# Altium schematic symbol library RPSLib_Microcontrollers.SchLib: 11 symbols
Pins are listed as number, name and electrical type; pins without a type are passive.

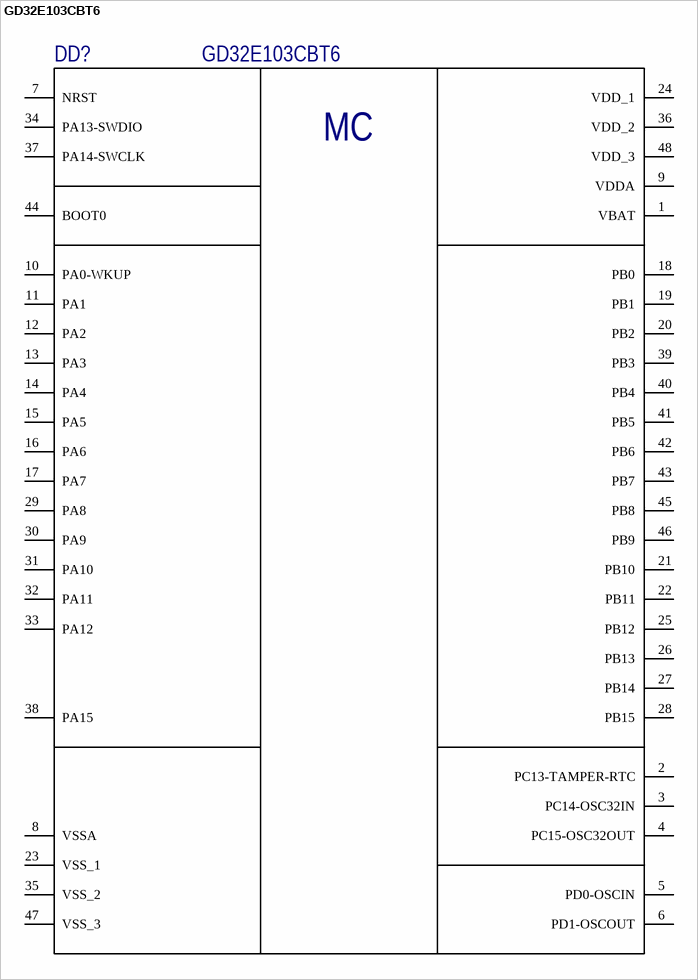
[diagram p0: symbol GD32E103CBT6]

## GD32E103CBT6
designator DD?
MCU 32-bit GD32E ARM Cortex M4 RISC 128KB Flash 2.5V/3.3V 48-Pin LQFP Tray; Manufacturer: GigaDevice; Interface: I2C,SPI,USB,CAN,IrDA,UART,USART,LIN; Max Supply Voltage: 3.6V; Frequency: 120MHz; RAM Size: 32KB; Number of I/Os: 37; Min Supply Voltage: 2V; Oscillator Type: Internal; Data Bus Width: 32b; Watchdog Timer: Yes; Peripherals: POR,PWM,WDT,DMA,Temp Sensor,I2C; Number of ADC Channels: 10; Number of SPI Channels: 2; Number of Bits: 32; Supplier 1: *; Manufacturer Part Number: GD32E103CBT6; RoHS: Yes; Category: Microcontrollers; Pricing 1: 1=7,38000, 10=6,67100, 25=6,36080, 90=5,52300, 270=5,27481, 450=4,80940, 990=4,52498 (USD); Case/Package: LQFP; Number of Pins: 48; Min Operating Temperature: -40°C; Max Operating Temperature: 85°C; Package Quantity: 90; Packaging: Tray; Max Frequency: 120MHz; Memory Type: FLASH; Memory Size: 128KB; Core Architecture: ARM; Density: 128KB; Number of I2C Channels: 2; Address Bus Width: 32b; Length: 9.2mm; Width: 9.2mm; Height: 1.6mm; Radiation Hardening: No; REACH SVHC: No SVHC; Lead Free: Lead Free; Supplier Part Number 1: *
footprint TSQFP50P900X900X160-48N (TSQFP, 48-Leads, Body 7,00x7,00mm, Pitch 0,50mm, IPC Medium Density)
pins: 1 VBAT, 2 PC13-TAMPER-RTC, 3 PC14-OSC32IN, 4 PC15-OSC32OUT, 5 PD0-OSCIN, 6 PD1-OSCOUT, 7 NRST, 8 VSSA, 9 VDDA, 10 PA0-WKUP, 11 PA1, 12 PA2, 13 PA3, 14 PA4, 15 PA5, 16 PA6, 17 PA7, 18 PB0, 19 PB1, 20 PB2, 21 PB10, 22 PB11, 23 VSS_1, 24 VDD_1, 25 PB12, 26 PB13, 27 PB14, 28 PB15, 29 PA8, 30 PA9, 31 PA10, 32 PA11, 33 PA12, 34 PA13-SWDIO, 35 VSS_2, 36 VDD_2, 37 PA14-SWCLK, 38 PA15, 39 PB3, 40 PB4, 41 PB5, 42 PB6, 43 PB7, 44 BOOT0, 45 PB8, 46 PB9, 47 VSS_3, 48 VDD_3
text: MC

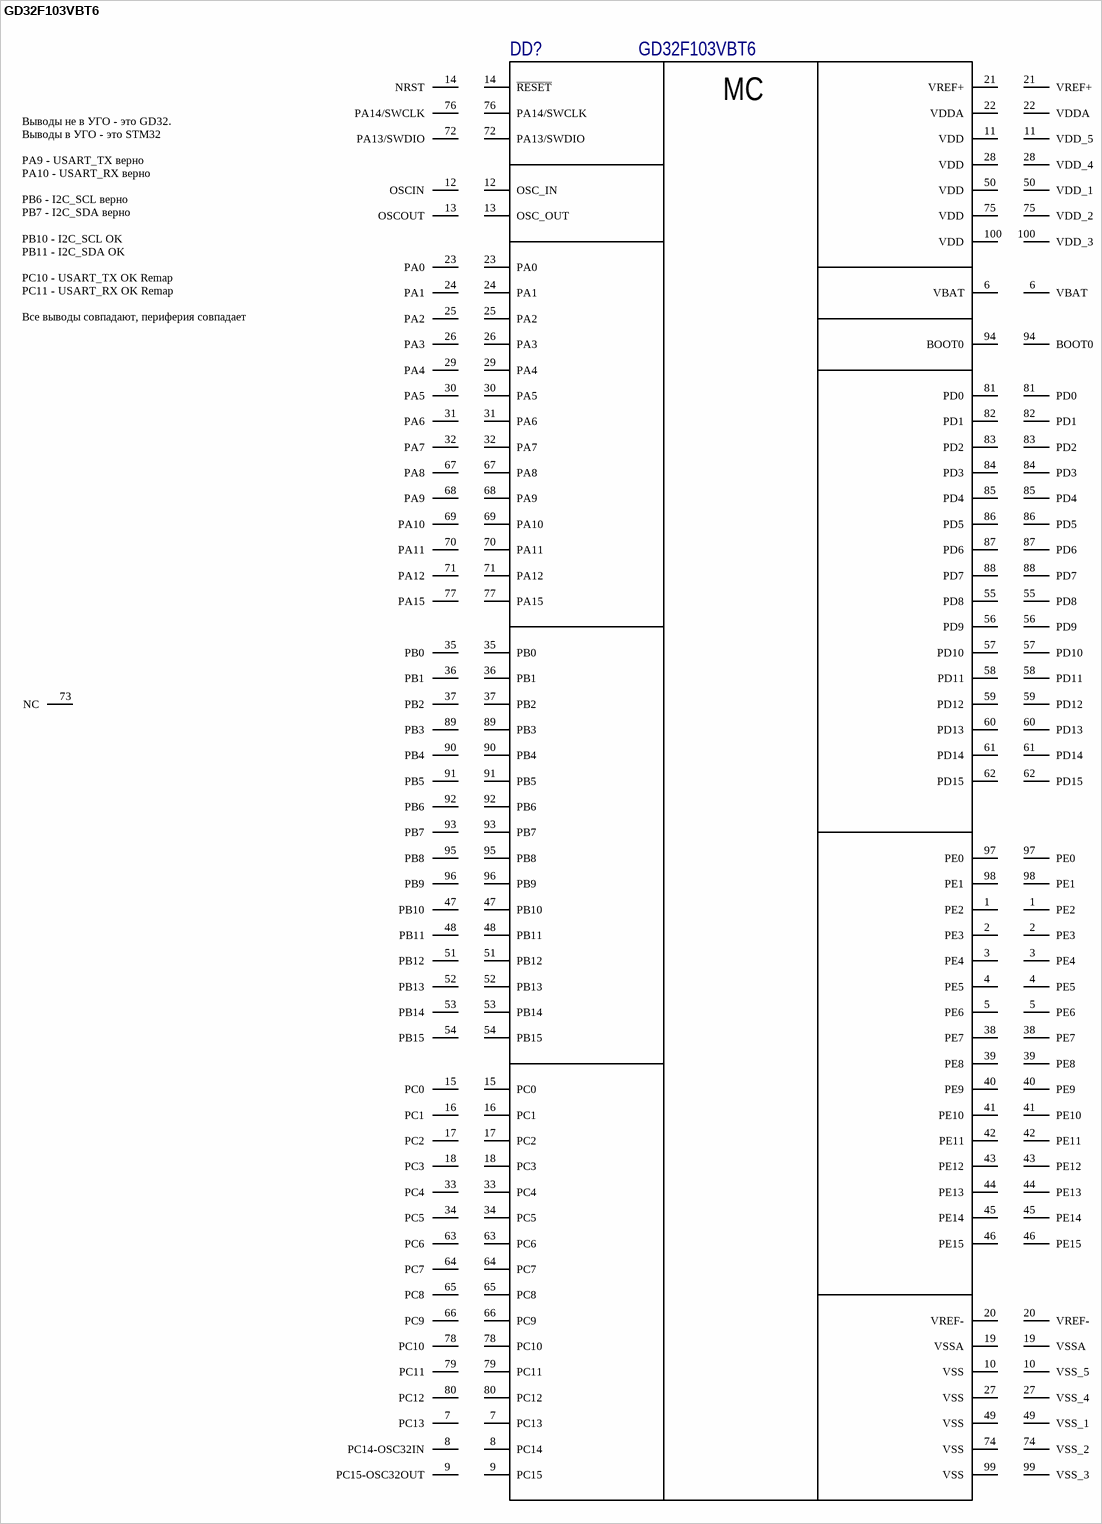
[diagram p1: symbol GD32F103VBT6]

## GD32F103VBT6
designator DD?
MCU 32-bit GD32F1 ARM Cortex M3 RISC 128KB Flash 2.5V/3.3V 100-Pin LQFP Tray; Manufacturer: GigaDevice; Interface: I2C,SPI,USB,CAN,IrDA,UART,USART,LIN; Max Supply Voltage: 3.6V; Frequency: 108MHz; RAM Size: 20KB; Max Power Dissipation: 434mW; Number of I/Os: 80; Number of Timers/Counters: 4; Min Supply Voltage: 2V; Number of Programmable I/O: 100; Oscillator Type: Internal; Data Bus Width: 32b; Watchdog Timer: Yes; Peripherals: POR,PWM,WDT,DMA,Temp Sensor,I2C; Number of PWM Channels: 1; Number of ADC Channels: 16; Number of SPI Channels: 2; Number of Bits: 32; Supplier 1: *; Manufacturer Part Number: GD32F103VBT6; RoHS: Yes; Category: Microcontrollers; Pricing 1: 1=7,38000, 10=6,67100, 25=6,36080, 90=5,52300, 270=5,27481, 450=4,80940, 990=4,52498 (USD); Case/Package: LQFP; Number of Pins: 100; Min Operating Temperature: -40°C; Max Operating Temperature: 85°C; Package Quantity: 90; Packaging: Tray; Max Frequency: 108MHz; Memory Type: FLASH; Memory Size: 128KB; Core Architecture: ARM; Density: 128KB; Number of I2C Channels: 2; Address Bus Width: 32b; Length: 14mm; Width: 14.2mm; Height: 1.45mm; Radiation Hardening: No; REACH SVHC: No SVHC; Lead Free: Lead Free; Supplier Part Number 1: 497-6070-ND
footprint TSQFP50P1600X1600X160-100N (TSQFP, 100-Leads, Body 14.00x14.00mm, Pitch 0.50mm, IPC Medium Density)
pins: 1 PE2, 1 PE2, 2 PE3, 2 PE3, 3 PE4, 3 PE4, 4 PE5, 4 PE5, 5 PE6, 5 PE6, 6 VBAT, 6 VBAT, 7 PC13, 7 PC13, 8 PC14, 8 PC14-OSC32IN, 9 PC15, 9 PC15-OSC32OUT, 10 VSS, 10 VSS_5, 11 VDD, 11 VDD_5, 12 OSC_IN, 12 OSCIN, 13 OSC_OUT, 13 OSCOUT, 14 ~{RESET}, 14 NRST, 15 PC0, 15 PC0, 16 PC1, 16 PC1, 17 PC2, 17 PC2, 18 PC3, 18 PC3, 19 VSSA, 19 VSSA, 20 VREF-, 20 VREF-, 21 VREF+, 21 VREF+, 22 VDDA, 22 VDDA, 23 PA0, 23 PA0, 24 PA1, 24 PA1, 25 PA2, 25 PA2, 26 PA3, 26 PA3, 27 VSS, 27 VSS_4, 28 VDD, 28 VDD_4, 29 PA4, 29 PA4, 30 PA5, 30 PA5, 31 PA6, 31 PA6, 32 PA7, 32 PA7, 33 PC4, 33 PC4, 34 PC5, 34 PC5, 35 PB0, 35 PB0, 36 PB1, 36 PB1, 37 PB2, 37 PB2, 38 PE7, 38 PE7, 39 PE8, 39 PE8, 40 PE9, 40 PE9, 41 PE10, 41 PE10, 42 PE11, 42 PE11, 43 PE12, 43 PE12, 44 PE13, 44 PE13, 45 PE14, 45 PE14, 46 PE15, 46 PE15, 47 PB10, 47 PB10, 48 PB11, 48 PB11, 49 VSS, 49 VSS_1, 50 VDD, 50 VDD_1, 51 PB12, 51 PB12, 52 PB13, 52 PB13, 53 PB14, 53 PB14, 54 PB15, 54 PB15, 55 PD8, 55 PD8, 56 PD9, 56 PD9, 57 PD10, 57 PD10, 58 PD11, 58 PD11, 59 PD12, 59 PD12, 60 PD13, 60 PD13, 61 PD14, 61 PD14, 62 PD15, 62 PD15, 63 PC6, 63 PC6, 64 PC7, 64 PC7, 65 PC8, 65 PC8, 66 PC9, 66 PC9, 67 PA8, 67 PA8, 68 PA9, 68 PA9, 69 PA10, 69 PA10, 70 PA11, 70 PA11, 71 PA12, 71 PA12, 72 PA13/SWDIO, 72 PA13/SWDIO, 73 NC, 74 VSS, 74 VSS_2, 75 VDD, 75 VDD_2, 76 PA14/SWCLK, 76 PA14/SWCLK, 77 PA15, 77 PA15, 78 PC10, 78 PC10, 79 PC11, 79 PC11, 80 PC12, 80 PC12, 81 PD0, 81 PD0, 82 PD1, 82 PD1, 83 PD2, 83 PD2, 84 PD3, 84 PD3, 85 PD4, 85 PD4, 86 PD5, 86 PD5, 87 PD6, 87 PD6, 88 PD7, 88 PD7, 89 PB3, 89 PB3, 90 PB4, 90 PB4, 91 PB5, 91 PB5, 92 PB6, 92 PB6, 93 PB7, 93 PB7, 94 BOOT0, 94 BOOT0, 95 PB8, 95 PB8, 96 PB9, 96 PB9, 97 PE0, 97 PE0, 98 PE1, 98 PE1, 99 VSS, 99 VSS_3, 100 VDD, 100 VDD_3
text: MC; Выводы не в УГО - это GD32. / Выводы в УГО - это STM32 / PA9 - USART_TX верно / PA10 - USART_RX верно / PB6 - I2C_SCL верно / PB7 - I2C_SDA верно / PB10 - I2C_SCL OK / PB11 - I2C_SDA OK / PC10 - USART_TX OK Remap / PC11 - USART_RX OK Remap / Все выводы совпадают, периферия совпадает

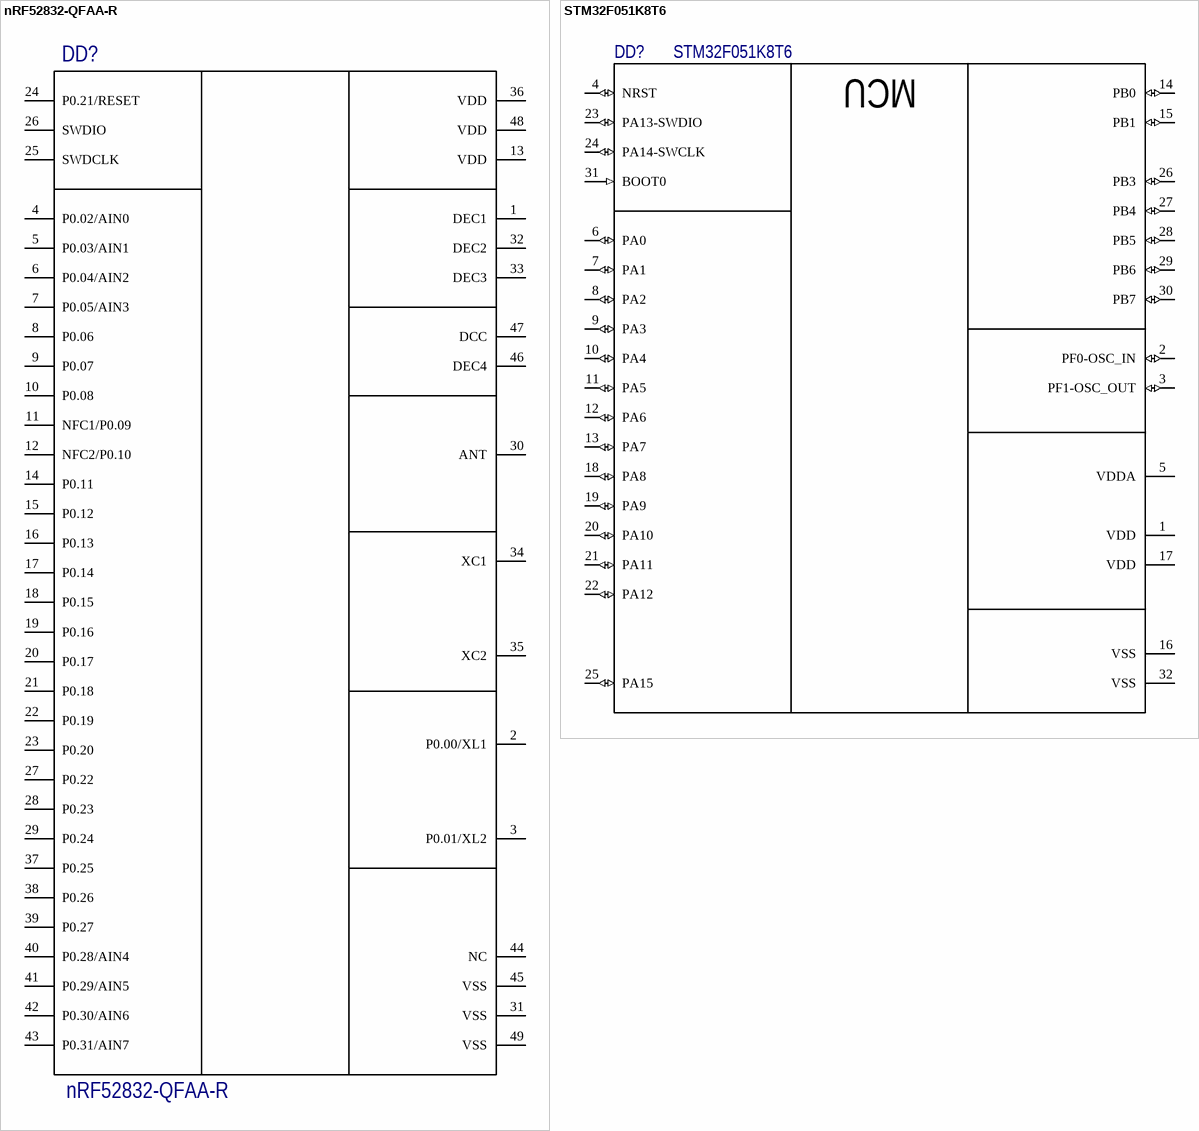
[diagram p2: symbols nRF52832-QFAA-R to STM32F051K8T6]

## nRF52832-QFAA-R
designator DD?
IC RF TxRx + MCU Bluetooth, General ISM > 1GHz Bluetooth v4.1 2.4GHz 48-VFQFN Exposed Pad; Manufacturer: Nordic Semiconductor; Manufacturer Part Number: NRF52832-QFAA-R7; Data Rate: 2Mbps; Sensitivity: -96dBm; Memory Size: 64KB; Number of GPIO: 32; Interface: I2C,SPI,UART; Memory Type: FLASH; Current - Receiving: 10.4mA; Current - Transmitting: 15.2mA; Data Bus Width: 32b; Core Architecture: ARM; РКД Наименование: NRF52832-QFAA - RF TxRx MCU Bluetooth IC; Supplier 1: Digi-Key; Stock 1: 194661; Pricing 1: 1=5.73, 10=5.119, 25=4.6068, 100=4.1974, 250=3.78788, 500=3.39886, 1000=2.8665 (USD); Mount: Surface Mount; Case/Package: QFN; Number of Pins: 48; Min Operating Temperature: -40°C; Max Operating Temperature: 85°C; Packaging: Tape and Reel; Frequency: 2.4GHz; RAM Size: 64Kb; Max Frequency: 2.4GHz; Lead Free: Lead Free; Supplier Part Number 1: 1490-1052-1-ND
footprint QFN40P600X600X90-48N (QFN, 48-Leads, Body 6,0x6,0mm (max), Pitch 0,40mm, IPC Medium Density)
pins: 1 DEC1, 2 P0.00/XL1, 3 P0.01/XL2, 4 P0.02/AIN0, 5 P0.03/AIN1, 6 P0.04/AIN2, 7 P0.05/AIN3, 8 P0.06, 9 P0.07, 10 P0.08, 11 NFC1/P0.09, 12 NFC2/P0.10, 13 VDD, 14 P0.11, 15 P0.12, 16 P0.13, 17 P0.14, 18 P0.15, 19 P0.16, 20 P0.17, 21 P0.18, 22 P0.19, 23 P0.20, 24 P0.21/RESET, 25 SWDCLK, 26 SWDIO, 27 P0.22, 28 P0.23, 29 P0.24, 30 ANT, 31 VSS, 32 DEC2, 33 DEC3, 34 XC1, 35 XC2, 36 VDD, 37 P0.25, 38 P0.26, 39 P0.27, 40 P0.28/AIN4, 41 P0.29/AIN5, 42 P0.30/AIN6, 43 P0.31/AIN7, 44 NC, 45 VSS, 46 DEC4, 47 DCC, 48 VDD, 49 VSS

## STM32F051K8T6
designator DD?
MCU 32-bit STM32F ARM Cortex M3 RISC 768KB Flash 2.5V/3.3V 100-Pin LQFP Tray; Manufacturer: STMicroelectronics; Manufacturer Part Number: STM32F051K8T6TR; Data Bus Width: 32b; EEPROM Memory Size: 0B; Flash Memory Size: 64kB; Frequency: 48MHz; Interface: HDMI, I2C, I2S, IrDA, LIN, SPI, UART, USART; Max Frequency: 32MHz; Max Supply Current: 23.2mA; Max Supply Voltage: 3.6V; Min Supply Voltage: 2V; Nominal Supply Current: 1.7µA; Nominal Supply Voltage (DC): 3.3V; Number of A/D Converters: 1; Number of ADC Channels: 16; Number of Channels: 10; Number of I/Os: 25; Number of Interrupts: 5; Number of PWM Channels: 6; Number of USART Channels: 2; Oscillator Type: Internal; Peripherals: DMA, POR, PWM, WDT; RAM Size: 8kB; Watchdog Timer: Yes; Supplier 1: DigiKey; RoHS: Compliant; Category: Microcontrollers; Stock 1: 9240; Pricing 1: 1=4,06, 10=3,069, 25=2,8204, 100=2,547, 250=2,41672, 500=2,37946 (USD); Case/Package: LQFP; China RoHS: Compliant; Contact Plating: Tin; Core Architecture: ARM; Country of Origin: Mainland China; Export Control Classification Number (ECCN) Code: 3A991.A.2; Height: 1.45mm; Height - Seated (Max): 1.6mm; Harmonized Tariff Schedule (HTS) Code: 8542.31.00.25; Introduction Date: 2012-07-23; Lead Free: Lead Free; Length: 7mm; Lifecycle Status: Production; Max Operating Temperature: 85°C; Memory Size: 64kB; Memory Type: FLASH; Min Operating Temperature: -40°C; Number of D/A Converters: 1; Number of I2C Channels: 1; Number of Pins: 32; Number of Programmable I/O: 25; Number of SPI Channels: 1; Number of Terminals: 32; Number of Timers/Counters: 1; Packaging: Tape and Reel; Radiation Hardening: No; REACH SVHC: Yes; Schedule B: 8542310000, 8542310000|8542310000|8542310000|8542310000|8542310000; Temperature Grade: Industrial; Terminal Pitch: 800µm; Width: 7mm; ComponentLink1URL: https://datasheet.octopart.com:443/STM32F051K8T6TR-STMicroelectronics-datasheet-68304280.pdf?src-supplier=HQonline; ComponentLink1Description: https://datasheet.octopart.com:443/STM32F051K8T6TR-STMicroelectronics-datasheet-68304280.pdf?src-supplier=HQonline; ComponentLink2URL: https://datasheet.octopart.com:443/STM32F051K8T6TR-STMicroelectronics-datasheet-11517890.pdf?src-supplier=Upverter; ComponentLink2Description: https://datasheet.octopart.com:443/STM32F051K8T6TR-STMicroelectronics-datasheet-11517890.pdf?src-supplier=Upverter; ComponentLink3URL: https://datasheet.octopart.com:443/STM32F051K8T6TR-STMicroelectronics-datasheet-62069523.pdf?src-supplier=STMicroelectronics; ComponentLink3Description: https://datasheet.octopart.com:443/STM32F051K8T6TR-STMicroelectronics-datasheet-62069523.pdf?src-supplier=STMicroelectronics; ComponentLink4URL: https://datasheet.octopart.com:443/STM32F051K8T6TR-STMicroelectronics-datasheet-66334055.pdf?src-supplier=SHENGYU+ELECTRONICS; ComponentLink4Description: https://datasheet.octopart.com:443/STM32F051K8T6TR-STMicroelectronics-datasheet-66334055.pdf?src-supplier=SHENGYU+ELECTRONICS; Supplier Part Number 1: 497-18980-1-ND
footprint TQFP80P900X900X160-32N (TQFP, 32-Leads, Body 7,00x7,00mm, Pitch 0,80mm, IPC Medium Density)
pins: 1 VDD (power), 2 PF0-OSC_IN (io), 3 PF1-OSC_OUT (io), 4 NRST (io), 5 VDDA (power), 6 PA0 (io), 7 PA1 (io), 8 PA2 (io), 9 PA3 (io), 10 PA4 (io), 11 PA5 (io), 12 PA6 (io), 13 PA7 (io), 14 PB0 (io), 15 PB1 (io), 16 VSS (power), 17 VDD (power), 18 PA8 (io), 19 PA9 (io), 20 PA10 (io), 21 PA11 (io), 22 PA12 (io), 23 PA13-SWDIO (io), 24 PA14-SWCLK (io), 25 PA15 (io), 26 PB3 (io), 27 PB4 (io), 28 PB5 (io), 29 PB6 (io), 30 PB7 (io), 31 BOOT0 (in), 32 VSS (power)
text: MCU

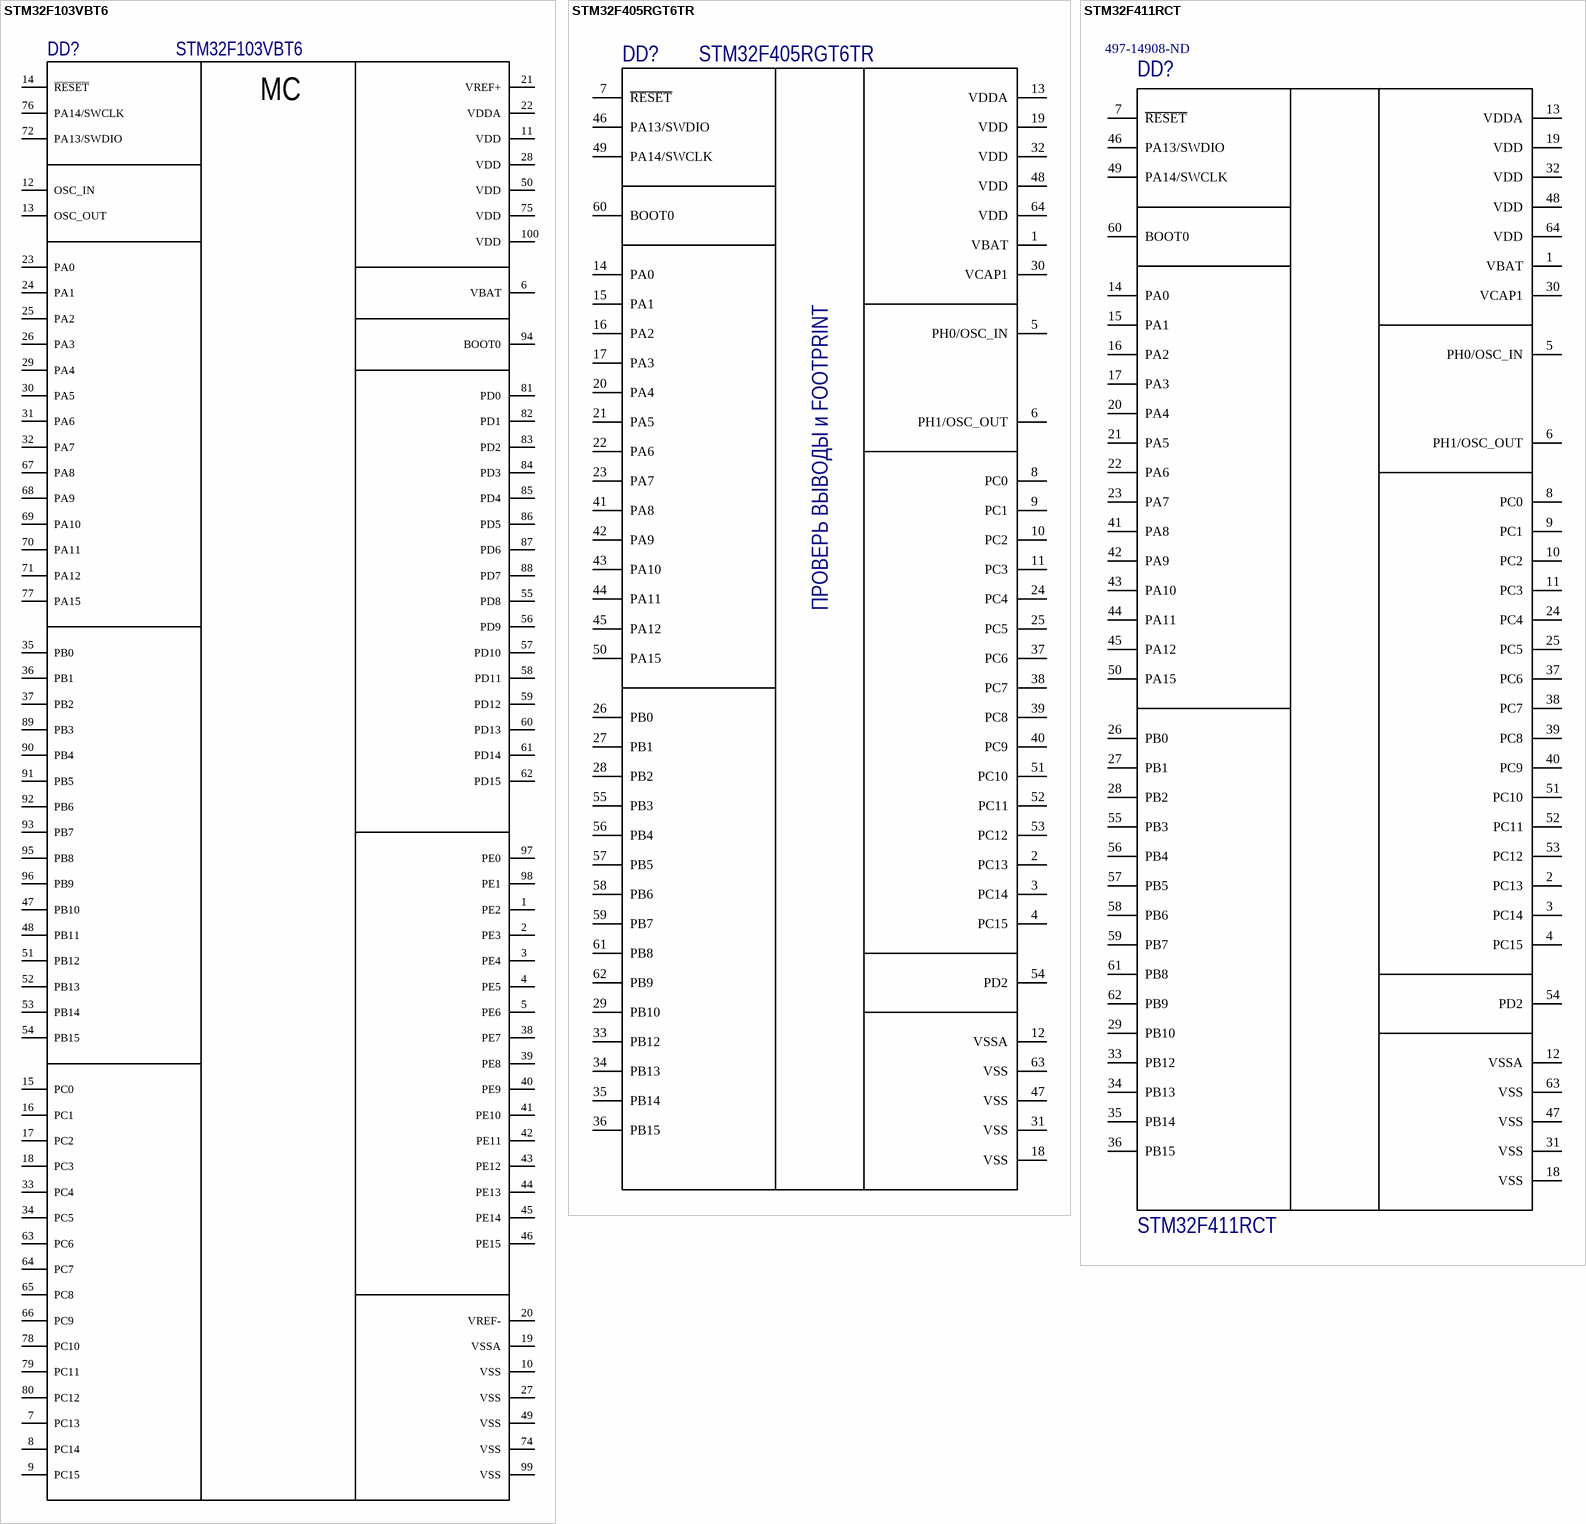
[diagram p3: symbols STM32F103VBT6 to STM32F411RCT]

## STM32F103VBT6
designator DD?
MCU 32-bit STM32F1 ARM Cortex M3 RISC 128KB Flash 2.5V/3.3V 100-Pin LQFP Tray; Manufacturer: STMicroelectronics; Interface: I2C,SPI,USB,CAN,IrDA,UART,USART,LIN; Max Supply Voltage: 3.6V; Frequency: 72MHz; RAM Size: 20KB; Max Power Dissipation: 434mW; Number of I/Os: 80; Number of Timers/Counters: 4; Min Supply Voltage: 2V; Number of Programmable I/O: 100; Oscillator Type: Internal; Data Bus Width: 32b; Watchdog Timer: Yes; Peripherals: POR,PWM,WDT,DMA,Temp Sensor,I2C; Number of PWM Channels: 1; Number of ADC Channels: 16; Number of SPI Channels: 2; Number of Bits: 32; Supplier 1: Digi-Key; Manufacturer Part Number: STM32F103VBT6; RoHS: Yes; Category: Microcontrollers; Pricing 1: 1=7,38000, 10=6,67100, 25=6,36080, 90=5,52300, 270=5,27481, 450=4,80940, 990=4,52498 (USD); Case/Package: LQFP; Number of Pins: 100; Min Operating Temperature: -40°C; Max Operating Temperature: 85°C; Package Quantity: 90; Packaging: Tray; Max Frequency: 72MHz; Memory Type: FLASH; Memory Size: 128KB; Core Architecture: ARM; Density: 128KB; Number of I2C Channels: 2; Address Bus Width: 32b; Length: 14mm; Width: 14.2mm; Height: 1.45mm; Radiation Hardening: No; REACH SVHC: No SVHC; Lead Free: Lead Free; ComponentLink1URL: https://datasheet.ciiva.com/26816/stm32f103vbt6-26816909.pdf?src-supplier=IIIC; ComponentLink1Description: https://datasheet.ciiva.com/26816/stm32f103vbt6-26816909.pdf?src-supplier=IIIC; ComponentLink2URL: https://datasheet.ciiva.com/4840/cd00161566-4840012.pdf?src-supplier=Mouser; ComponentLink2Description: https://datasheet.ciiva.com/4840/cd00161566-4840012.pdf?src-supplier=Mouser; ComponentLink3URL: https://datasheet.ciiva.com/5752/cd00161566-5752872.pdf?src-supplier=Farnell; ComponentLink3Description: https://datasheet.ciiva.com/5752/cd00161566-5752872.pdf?src-supplier=Farnell; Supplier Part Number 1: 497-6070-ND
pins: 1 PE2, 2 PE3, 3 PE4, 4 PE5, 5 PE6, 6 VBAT, 7 PC13, 8 PC14, 9 PC15, 10 VSS, 11 VDD, 12 OSC_IN, 13 OSC_OUT, 14 ~{RESET}, 15 PC0, 16 PC1, 17 PC2, 18 PC3, 19 VSSA, 20 VREF-, 21 VREF+, 22 VDDA, 23 PA0, 24 PA1, 25 PA2, 26 PA3, 27 VSS, 28 VDD, 29 PA4, 30 PA5, 31 PA6, 32 PA7, 33 PC4, 34 PC5, 35 PB0, 36 PB1, 37 PB2, 38 PE7, 39 PE8, 40 PE9, 41 PE10, 42 PE11, 43 PE12, 44 PE13, 45 PE14, 46 PE15, 47 PB10, 48 PB11, 49 VSS, 50 VDD, 51 PB12, 52 PB13, 53 PB14, 54 PB15, 55 PD8, 56 PD9, 57 PD10, 58 PD11, 59 PD12, 60 PD13, 61 PD14, 62 PD15, 63 PC6, 64 PC7, 65 PC8, 66 PC9, 67 PA8, 68 PA9, 69 PA10, 70 PA11, 71 PA12, 72 PA13/SWDIO, 74 VSS, 75 VDD, 76 PA14/SWCLK, 77 PA15, 78 PC10, 79 PC11, 80 PC12, 81 PD0, 82 PD1, 83 PD2, 84 PD3, 85 PD4, 86 PD5, 87 PD6, 88 PD7, 89 PB3, 90 PB4, 91 PB5, 92 PB6, 93 PB7, 94 BOOT0, 95 PB8, 96 PB9, 97 PE0, 98 PE1, 99 VSS, 100 VDD
text: MC

## STM32F405RGT6TR
designator DD?
STM32F Series 1 MB Flash 192 KB RAM 168 MHz 32-Bit Microcontroller - LQFP-64; Manufacturer: STMicroelectronics; Core Architecture: ARM; Interface: CAN,I2C,I2S,IrDA,LIN,SPI,UART,USART,USB; Data Bus Width: 32b; RAM Size: 196KB; Number of I/Os: 51; Frequency: 168MHz; Memory Size: 1024KB; Max Supply Voltage: 3.6V; Min Supply Voltage: 1.8V; Number of Timers/Counters: 14; Oscillator Type: Internal; Number of ADC Channels: 16; Number of SPI Channels: 3; Peripherals: Brown-out Detect/Reset,DMA,LCD,POR,PWM,WDT; Number of UART Channels: 2; Watchdog Timer: Yes; Max Power Dissipation: 435mW; Supplier 1: Digi-Key; Manufacturer Part Number: STM32F405RGT6TR; Stock 1: 2483; Pricing 1: 1=11.7, 10=10.757, 100=9.0849, 500=8.0816 (USD); Mount: Surface Mount; Case/Package: LQFP; Number of Pins: 64; Contact Plating: Matte,Tin; Min Operating Temperature: -40°C; Max Operating Temperature: 85°C; Package Quantity: 1000; Packaging: Tape and Reel; Max Frequency: 168MHz; Number of I2C Channels: 3; Memory Type: FLASH; Number of Programmable I/O: 51; Number of USB Channels: 2; Length: 10mm; Height: 1.45mm; Width: 10mm; Radiation Hardening: No; Lead Free: Lead Free; ComponentLink1URL: http://www.st.com/st-web-ui/static/active/en/resource/technical/document/datasheet/DM00037051.pdf?src-supplier=Avnet; ComponentLink1Description: http://www.st.com/st-web-ui/static/active/en/resource/technical/document/datasheet/DM00037051.pdf?src-supplier=Avnet; Supplier Part Number 1: 497-17432-1-ND
footprint TSQFP50P1200X1200X160-64N (TSQFP, 64-Leads, Body 10,00x10,00mm, Pitch 0,50mm, IPC Medium Density)
pins: 1 VBAT, 2 PC13, 3 PC14, 4 PC15, 5 PH0/OSC_IN, 6 PH1/OSC_OUT, 7 ~{RESET}, 8 PC0, 9 PC1, 10 PC2, 11 PC3, 12 VSSA, 13 VDDA, 14 PA0, 15 PA1, 16 PA2, 17 PA3, 18 VSS, 19 VDD, 20 PA4, 21 PA5, 22 PA6, 23 PA7, 24 PC4, 25 PC5, 26 PB0, 27 PB1, 28 PB2, 29 PB10, 30 VCAP1, 31 VSS, 32 VDD, 33 PB12, 34 PB13, 35 PB14, 36 PB15, 37 PC6, 38 PC7, 39 PC8, 40 PC9, 41 PA8, 42 PA9, 43 PA10, 44 PA11, 45 PA12, 46 PA13/SWDIO, 47 VSS, 48 VDD, 49 PA14/SWCLK, 50 PA15, 51 PC10, 52 PC11, 53 PC12, 54 PD2, 55 PB3, 56 PB4, 57 PB5, 58 PB6, 59 PB7, 60 BOOT0, 61 PB8, 62 PB9, 63 VSS, 64 VDD
text: ПРОВЕРЬ ВЫВОДЫ и FOOTPRINT

## STM32F411RCT
designator DD?  Supplier Part Number 1: 497-14908-ND
32 Bit Microcontroller, Batch Acquisition Mode, ARM Cortex-M4, 100 MHz, 256 KB, 128 KB, 64 Pins; Manufacturer: STMicroelectronics; Manufacturer Part Number: STM32F411RCT6; RAM Size: 128KB; Max Power Dissipation: 313mW; Interface: I2C,I2S,IrDA,LIN,MMC,SD,SDIO,SPI,UART,USART,USB; Number of I/Os: 50; Number of Timers/Counters: 8; Frequency: 100MHz; Oscillator Type: Internal; Min Supply Voltage: 1.7V; Max Supply Voltage: 3.6V; Data Bus Width: 32b; Watchdog Timer: Yes; Memory Type: FLASH; Memory Size: 256KB; Number of ADC Channels: 16; Peripherals: Brown-out Detect/Reset,DMA,POR,PWM,WDT; Operating Supply Voltage: 3.3V; Supplier 1: Digi-Key; Stock 1: 2901; Pricing 1: 1=6.58, 10=5.91, 160=4.84188, 640=4.12178, 1120=3.4762 (USD); Mount: Surface Mount; Case/Package: LQFP; Number of Pins: 64; Weight: 0.012088oz; Min Operating Temperature: -40°C; Max Operating Temperature: 85°C; Packaging: Tray; Number of Programmable I/O: 50; Max Frequency: 100MHz; Package Quantity: 960; Core Architecture: ARM; Length: 10mm; Width: 10mm; Radiation Hardening: No; REACH SVHC: No SVHC; Lead Free: Lead Free; РКД Наименование: *
footprint TSQFP50P1200X1200X160-64N (TSQFP, 64-Leads, Body 10,00x10,00mm, Pitch 0,50mm, IPC Medium Density)
pins: 1 VBAT, 2 PC13, 3 PC14, 4 PC15, 5 PH0/OSC_IN, 6 PH1/OSC_OUT, 7 ~{RESET}, 8 PC0, 9 PC1, 10 PC2, 11 PC3, 12 VSSA, 13 VDDA, 14 PA0, 15 PA1, 16 PA2, 17 PA3, 18 VSS, 19 VDD, 20 PA4, 21 PA5, 22 PA6, 23 PA7, 24 PC4, 25 PC5, 26 PB0, 27 PB1, 28 PB2, 29 PB10, 30 VCAP1, 31 VSS, 32 VDD, 33 PB12, 34 PB13, 35 PB14, 36 PB15, 37 PC6, 38 PC7, 39 PC8, 40 PC9, 41 PA8, 42 PA9, 43 PA10, 44 PA11, 45 PA12, 46 PA13/SWDIO, 47 VSS, 48 VDD, 49 PA14/SWCLK, 50 PA15, 51 PC10, 52 PC11, 53 PC12, 54 PD2, 55 PB3, 56 PB4, 57 PB5, 58 PB6, 59 PB7, 60 BOOT0, 61 PB8, 62 PB9, 63 VSS, 64 VDD

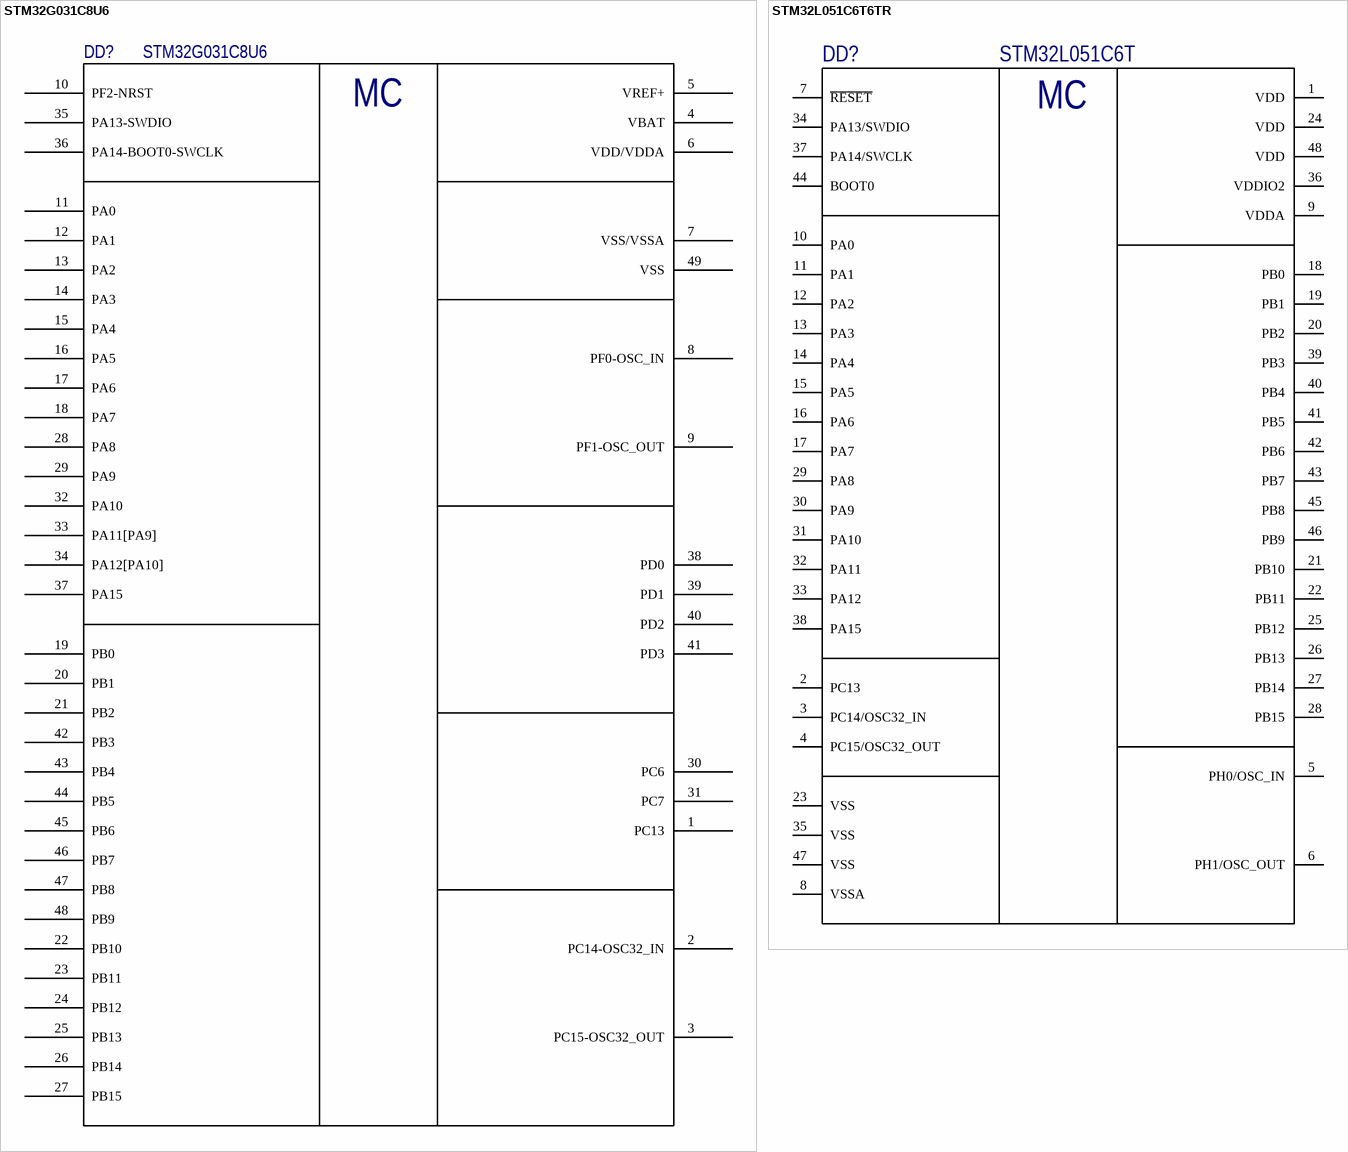
[diagram p4: symbols STM32G031C8U6 to STM32L051C6T6TR]

## STM32G031C8U6
designator DD?
MCU 32-Bit ARM Cortex-M0+ RISC 64KB Flash 1.7V to 3.6V 48-Pin UFQFPN Tray; Manufacturer: STMicroelectronics; Supplier 1: Digi-Key; Manufacturer Part Number: STM32G031C8U6; RoHS: Yes; Category: Microcontrollers; Pricing 1: 1=3,34000, 10=2,99600, 25=2,83240, 80=2,45488, 260=2,32900, 520=2,09819 (USD); Supplier Part Number 1: 497-19560-ND
footprint QFN50P700X700X60_HS-49N-STM32G (Footprint not found)
pins: 1 PC13, 2 PC14-OSC32_IN, 3 PC15-OSC32_OUT, 4 VBAT, 5 VREF+, 6 VDD/VDDA, 7 VSS/VSSA, 8 PF0-OSC_IN, 9 PF1-OSC_OUT, 10 PF2-NRST, 11 PA0, 12 PA1, 13 PA2, 14 PA3, 15 PA4, 16 PA5, 17 PA6, 18 PA7, 19 PB0, 20 PB1, 21 PB2, 22 PB10, 23 PB11, 24 PB12, 25 PB13, 26 PB14, 27 PB15, 28 PA8, 29 PA9, 30 PC6, 31 PC7, 32 PA10, 33 PA11[PA9], 34 PA12[PA10], 35 PA13-SWDIO, 36 PA14-BOOT0-SWCLK, 37 PA15, 38 PD0, 39 PD1, 40 PD2, 41 PD3, 42 PB3, 43 PB4, 44 PB5, 45 PB6, 46 PB7, 47 PB8, 48 PB9, 49 VSS
text: MC

## STM32L051C6T6TR
designator DD?, comment STM32L051C6T
MCU 32-Bit STM32L ARM Cortex M0+ RISC 32KB Flash 2.5V/3.3V 48-Pin LQFP T/R; Manufacturer: STMicroelectronics; Manufacturer Part Number: STM32L051C6T6TR; Max Power Dissipation: 363mW; Interface: I2C,SPI,IrDA,UART,USART,I2S; Number of I/Os: 37; Number of Timers/Counters: 5; RAM Size: 8KB; Frequency: 32MHz; Oscillator Type: Internal; Min Supply Voltage: 1.8V; Max Supply Voltage: 3.6V; Data Bus Width: 32b; Watchdog Timer: Yes; Peripherals: Brown-out Detect/Reset,POR,PWM,WDT,DMA; Supplier 1: Digi-Key; RoHS: Yes; Category: Microcontrollers; Stock 1: 1090; Pricing 1: 1=3,08000, 10=2,76200, 25=2,61160, 100=2,43750 (USD); Case/Package: LQFP; Number of Pins: 48; Min Operating Temperature: -40°C; Max Operating Temperature: 85°C; Packaging: Tape and Reel; Number of Programmable I/O: 37; Max Frequency: 32MHz; Memory Type: FLASH; Memory Size: 32KB; Package Quantity: 2400; Core Architecture: ARM; Lead Free: Lead Free; RoHS Compliant: Yes; REACH SVHC: No SVHC; ComponentLink1URL: https://datasheet.ciiva.com/48492/dm00108219-48492459.pdf?src-supplier=Avnet; ComponentLink1Description: https://datasheet.ciiva.com/48492/dm00108219-48492459.pdf?src-supplier=Avnet; Supplier Part Number 1: 497-19012-1-ND
footprint TSQFP50P900X900X160-48N (Footprint not found)
pins: 1 VDD, 2 PC13, 3 PC14/OSC32_IN, 4 PC15/OSC32_OUT, 5 PH0/OSC_IN, 6 PH1/OSC_OUT, 7 ~{RESET}, 8 VSSA, 9 VDDA, 10 PA0, 11 PA1, 12 PA2, 13 PA3, 14 PA4, 15 PA5, 16 PA6, 17 PA7, 18 PB0, 19 PB1, 20 PB2, 21 PB10, 22 PB11, 23 VSS, 24 VDD, 25 PB12, 26 PB13, 27 PB14, 28 PB15, 29 PA8, 30 PA9, 31 PA10, 32 PA11, 33 PA12, 34 PA13/SWDIO, 35 VSS, 36 VDDIO2, 37 PA14/SWCLK, 38 PA15, 39 PB3, 40 PB4, 41 PB5, 42 PB6, 43 PB7, 44 BOOT0, 45 PB8, 46 PB9, 47 VSS, 48 VDD
text: MC

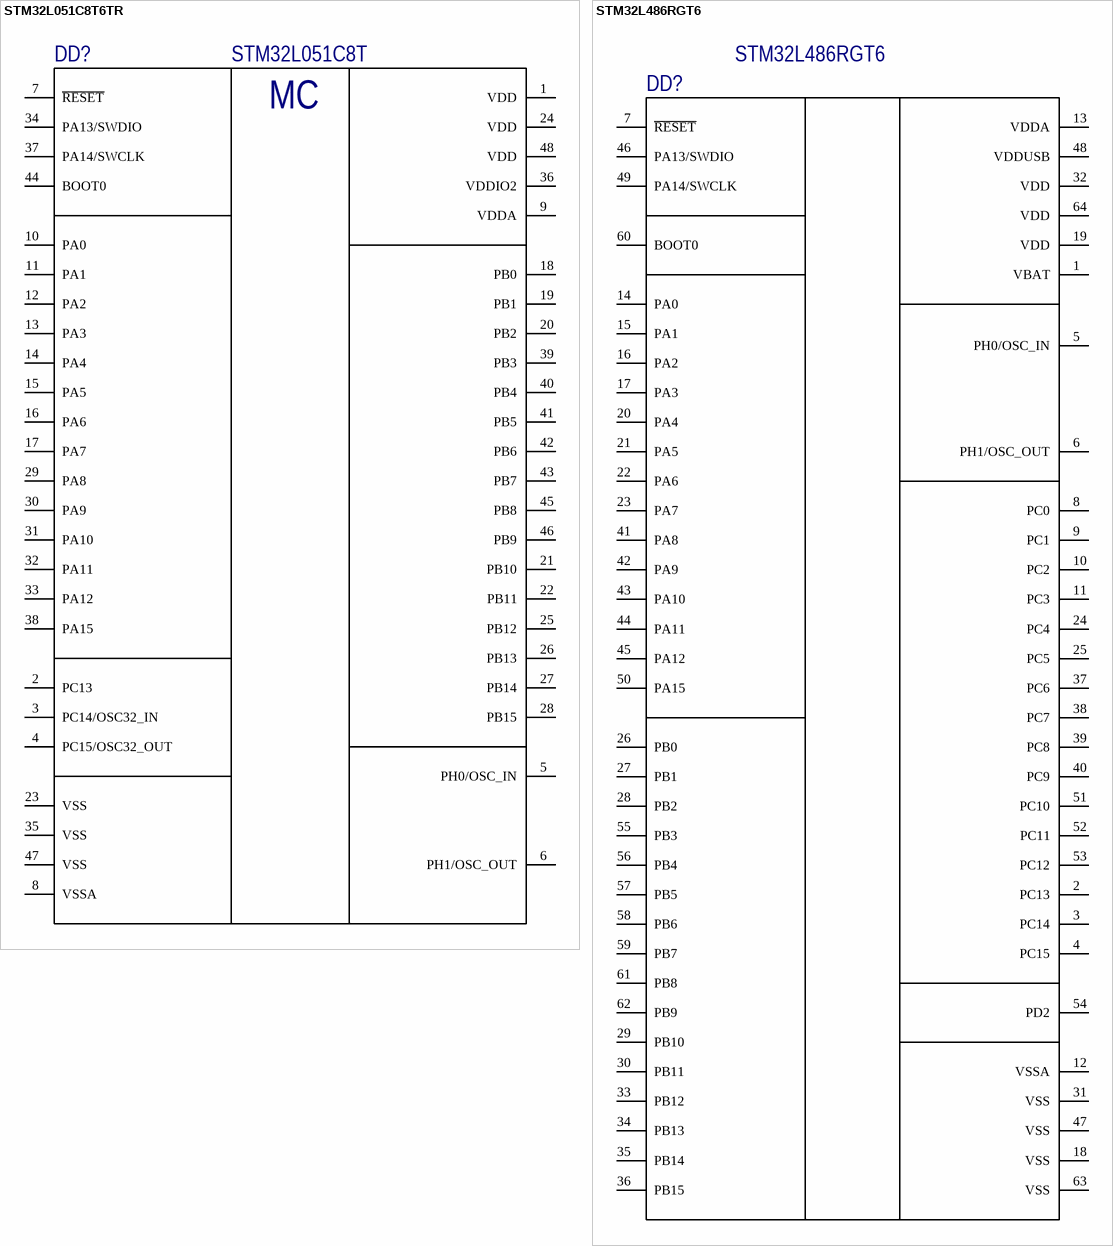
[diagram p5: symbols STM32L051C8T6TR to STM32L486RGT6]

## STM32L051C8T6TR
designator DD?, comment STM32L051C8T
MCU 32-Bit STM32L ARM Cortex M0+ RISC 64KB Flash 2.5V/3.3V 48-Pin LQFP T/R; Manufacturer: STMicroelectronics; Manufacturer Part Number: STM32L051C8T6TR; Max Power Dissipation: 363mW; Interface: I2C,SPI,IrDA,UART,USART,I2S; Number of I/Os: 37; Number of Timers/Counters: 5; RAM Size: 8KB; Frequency: 32MHz; Oscillator Type: Internal; Max Supply Voltage: 3.6V; Data Bus Width: 32b; Watchdog Timer: Yes; Peripherals: Brown-out Detect/Reset,POR,PWM,WDT,DMA; Min Supply Voltage: 1.8V; Supplier 1: Digi-Key; RoHS: Yes; Category: Microcontrollers; Pricing 1: 1=4,40000, 10=3,95400, 25=3,73840, 100=3,24000, 250=3,07380, 500=2,76920 (USD); Case/Package: LQFP; Number of Pins: 48; Min Operating Temperature: -40°C; Max Operating Temperature: 85°C; Packaging: Tape and Reel; Number of Programmable I/O: 37; Max Frequency: 32MHz; Memory Type: FLASH; Memory Size: 64KB; Core Architecture: ARM; RoHS Compliant: Yes; Lead Free: Lead Free; REACH SVHC: No SVHC; ComponentLink1URL: https://datasheet.ciiva.com/48494/dm00108219-48494045.pdf?src-supplier=Avnet; ComponentLink1Description: https://datasheet.ciiva.com/48494/dm00108219-48494045.pdf?src-supplier=Avnet; Supplier Part Number 1: 497-17487-1-ND
footprint TSQFP50P900X900X160-48N (TSQFP, 48-Leads, Body 7,00x7,00mm, Pitch 0,50mm, IPC Medium Density)
pins: 1 VDD, 2 PC13, 3 PC14/OSC32_IN, 4 PC15/OSC32_OUT, 5 PH0/OSC_IN, 6 PH1/OSC_OUT, 7 ~{RESET}, 8 VSSA, 9 VDDA, 10 PA0, 11 PA1, 12 PA2, 13 PA3, 14 PA4, 15 PA5, 16 PA6, 17 PA7, 18 PB0, 19 PB1, 20 PB2, 21 PB10, 22 PB11, 23 VSS, 24 VDD, 25 PB12, 26 PB13, 27 PB14, 28 PB15, 29 PA8, 30 PA9, 31 PA10, 32 PA11, 33 PA12, 34 PA13/SWDIO, 35 VSS, 36 VDDIO2, 37 PA14/SWCLK, 38 PA15, 39 PB3, 40 PB4, 41 PB5, 42 PB6, 43 PB7, 44 BOOT0, 45 PB8, 46 PB9, 47 VSS, 48 VDD
text: MC

## STM32L486RGT6
designator DD?
IC MCU 32BIT 1MB FLASH 64LQFP; Manufacturer: STMicroelectronics; Frequency: 80MHz; Interface: I2C,SPI,USB,CAN,IrDA,MMC,SD,UART,USART,LIN; Number of I/Os: 51; Oscillator Type: Internal; RAM Size: 128KB; Min Supply Voltage: 1.71V; Max Supply Voltage: 3.6V; Data Bus Width: 32b; Number of ADC Channels: 16; Data Rate: 5Mbps; Number of Timers/Counters: 11; Peripherals: Brown-out Detect/Reset,PWM,WDT,DMA,LCD; Core Architecture: ARM; Supplier 1: Digi-Key; Stock 1: 4803; Pricing 1: 1=10.07, 10=9.092, 160=7.52763, 640=6.55495, 1120=5.70915 (USD); Mount: Surface Mount; Case/Package: LQFP; Number of Pins: 64; Min Operating Temperature: -40°C; Max Operating Temperature: 85°C; Packaging: Tray; Max Frequency: 80MHz; Memory Type: FLASH; Memory Size: 1MB; Length: 10mm; Height: 1.45mm; Width: 10mm; REACH SVHC: No SVHC; Lead Free: Lead Free; Manufacturer Part Number: STM32L486RGT6; Supplier Part Number 1: 497-15874-ND
footprint TSQFP50P1200X1200X160-64N (TSQFP, 64-Leads, Body 10,00x10,00mm, Pitch 0,50mm, IPC Medium Density)
pins: 1 VBAT, 2 PC13, 3 PC14, 4 PC15, 5 PH0/OSC_IN, 6 PH1/OSC_OUT, 7 ~{RESET}, 8 PC0, 9 PC1, 10 PC2, 11 PC3, 12 VSSA, 13 VDDA, 14 PA0, 15 PA1, 16 PA2, 17 PA3, 18 VSS, 19 VDD, 20 PA4, 21 PA5, 22 PA6, 23 PA7, 24 PC4, 25 PC5, 26 PB0, 27 PB1, 28 PB2, 29 PB10, 30 PB11, 31 VSS, 32 VDD, 33 PB12, 34 PB13, 35 PB14, 36 PB15, 37 PC6, 38 PC7, 39 PC8, 40 PC9, 41 PA8, 42 PA9, 43 PA10, 44 PA11, 45 PA12, 46 PA13/SWDIO, 47 VSS, 48 VDDUSB, 49 PA14/SWCLK, 50 PA15, 51 PC10, 52 PC11, 53 PC12, 54 PD2, 55 PB3, 56 PB4, 57 PB5, 58 PB6, 59 PB7, 60 BOOT0, 61 PB8, 62 PB9, 63 VSS, 64 VDD